# Altium footprint library PcbLib1.PcbLib: 38 footprints (part 3 of 3)
Each footprint in its own frame and in the unit in brackets; x right, y up, seen from the top. Pads: shape width x height; smd on the part's side, far side on the other; paste and mask are expansions set on the pad; w line width, h text height; cw(c..) or ccw(c..) is an arc to the next point about the centre after c.
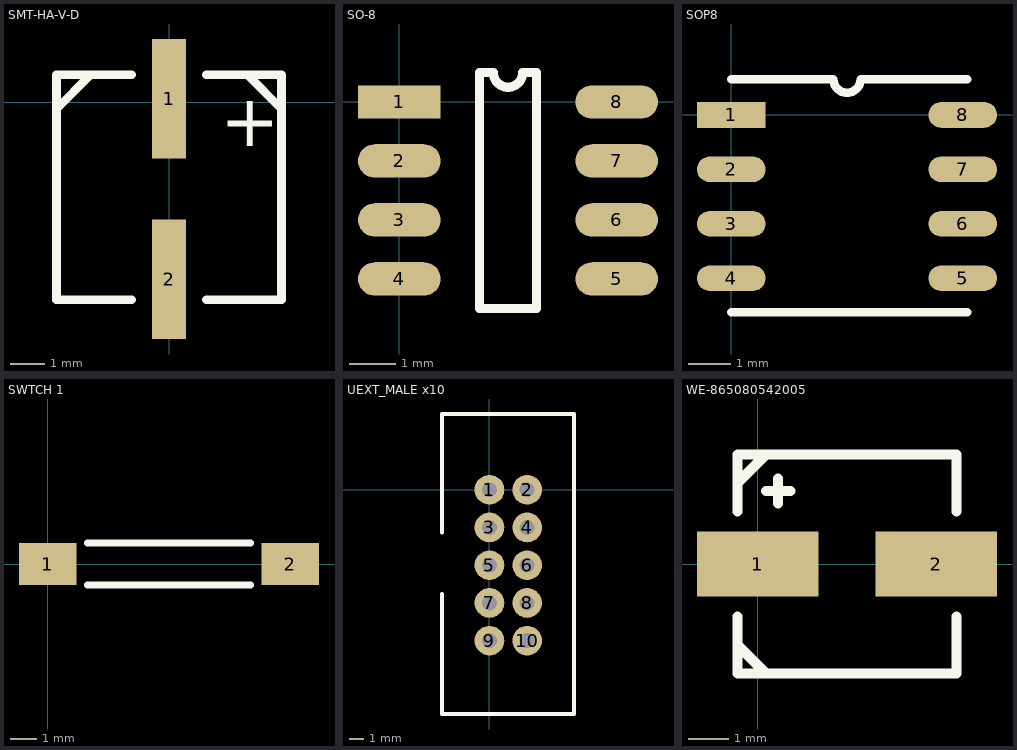
[diagram p2: the footprints below, top view; thin cyan lines are the x and y axes]

## SMT-HA-V-D [mm] "EEEHA1A101WP"
pads (2):
  rect 1x3.5 smd: 1(0,0.1) 2(0,-5.2)
Top Overlay:
  lines w0.254: -3.3,-0.2 -2.3,0.8 ; -1.1,-5.8 -3.3,-5.8 -3.3,0.8 -1.1,0.8 ; 1.1,-5.8 3.3,-5.8 3.3,0.8 1.1,0.8 ; 2,0.8 2.2,0.8 2.3,0.8 3.3,-0.2
  text "+" at 1.5,-1.3 h1.52

## SO-8 [mm] "IRF7807"
pads (8):
  rect 1.78x0.72 smd: 1(0,0)
  oval 1.78x0.72 smd: 2(0,-1.27) 3(0,-2.54) 4(0,-3.81) 5(4.68,-3.81) 6(4.68,-2.54) 7(4.68,-1.27) 8(4.68,0)
Top Overlay:
  lines w0.2: 1.725,-4.445 2.955,-4.445 2.955,0.635 2.658,0.635 cw(c2.34,0.635) 2.023,0.635 1.725,0.635 1.725,-4.445

## SOP8 [mm]
pads (8):
  rect 1.6x0.6 smd: 1(0,0)
  oval 1.6x0.6 smd: 2(0,-1.27) 3(0,-2.54) 4(0,-3.81) 5(5.4,-3.81) 6(5.4,-2.54) 7(5.4,-1.27) 8(5.4,0)
Top Overlay:
  lines w0.2: 0,-4.6 5.5,-4.6 ; 0,0.835 2.382,0.835 ccw(c2.7,0.835) 3.017,0.835 5.5,0.835

## SWTCH 1 [mm] "Switch cms footprint"
pads (2):
  rect 2.18x1.6 smd: 1(0,0) 2(9.2,0)
Top Overlay:
  lines w0.254: 1.5,-0.8 5.7,-0.8 7.7,-0.8 ; 1.5,0.8 7.7,0.8

## UEXT_MALE x10 [mm]
pads (10):
  round 2 hole 1: 1(0,0) 2(2.54,0) 3(0,-2.54) 4(2.54,-2.54) 5(0,-5.08) 6(2.54,-5.08) 7(0,-7.62) 8(2.54,-7.62) 9(0,-10.16) 10(2.54,-10.16)
Top Overlay:
  lines w0.254: -3.2,-15.1 5.7,-15.1 5.7,5.1 -3.2,5.1 -3.2,-2.9 ; -3.2,-15 -3.2,-7

## WE-865080542005 [mm]
pads (2):
  rect 3x1.6 smd: 1(0,0) 2(4.4,0)
Top Overlay:
  lines w0.254: -0.5,-2 0.2,-2.7 ; -0.5,-1.3 -0.5,-2.7 4.9,-2.7 4.9,-1.3 ; -0.5,1.3 -0.5,2.7 4.9,2.7 4.9,1.3 ; -0.5,2 0.2,2.7 ; 0.2,1.8 0.8,1.8 ; 0.5,1.5 0.5,2.1